# Altium schematic symbol library LP5912-3.3DRVR.SchLib: 1 symbol
Pins are listed as number, name and electrical type; pins without a type are passive.

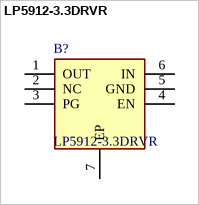
[diagram p0: symbol LP5912-3.3DRVR]

## LP5912-3.3DRVR
designator B?
500-mA low-noise low-IQ low-dropout (LDO) linear regulator; Manufacturer_Name: Texas Instruments; Geometry.Height: 0.8mm; Mouser Part Number: 595-LP5912-3.3DRVR; Mouser Price/Stock: https://www.mouser.co.uk/ProductDetail/Texas-Instruments/LP5912-3.3DRVR?qs=n%252BTO0c4TDSY0RMrHlK%2FGvQ%3D%3D; Manufacturer_Part_Number: LP5912-3.3DRVR; Datasheet Link: http://www.ti.com/lit/gpn/lp5912
footprint SON65P200X200X80-7N
pins: 1 OUT, 2 NC, 3 PG, 4 EN, 5 GND, 6 IN, 7 EP